# Altium footprint library Inductor.PcbLib: 2 footprints
Each footprint in its own frame and in the unit in brackets; x right, y up, seen from the top. Pads: shape width x height; smd on the part's side, far side on the other; paste and mask are expansions set on the pad; w line width, h text height; cw(c..) or ccw(c..) is an arc to the next point about the centre after c.
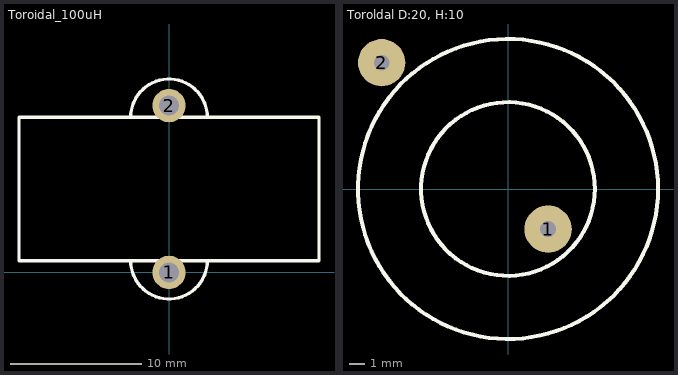
[diagram p0: the footprints below, top view; thin cyan lines are the x and y axes]

## Toroidal_100uH [mil]
pads (2):
  round 100 hole 60: 1(0,0) 2(0,500)
Top Overlay:
  lines w10: -115,35 ccw(c0,35) 115,35 ; -115,465 cw(c0,465) 115,465 ; -450,35 450,35 450,465 -450,465 -450,35

## Toroldal D:20, H:10 [mm]
pads (2):
  round 3 hole 1: 1(2.54,-2.54) 2(-8.001,8.001)
Top Overlay:
  circle w0.254: c0,0 r5.5
  circle w0.254: c0,0 r9.501
3D body: height 10, standoff 0, extent -9.761,-9.98 10.16,9.98